# Altium schematic symbol library YLXC.SchLib: 6 symbols
Pins are listed as number, name and electrical type; pins without a type are passive.

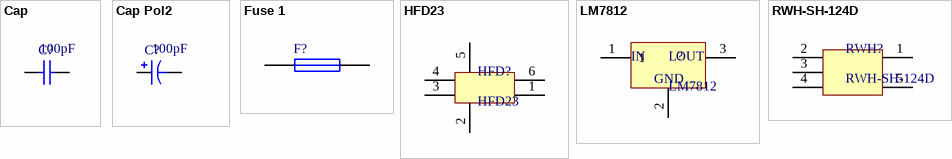
[diagram p0: symbols Cap to RWH-SH-124D]

## Cap
designator C?  value 100pF
Capacitor; Published: 8-Jun-2000; LatestRevisionDate: 17-Jul-2002; LatestRevisionNote: Re-released for DXP Platform.; PackageReference: RAD-0.3; Publisher: Altium Limited; PackageDescription: Radial Cap, Thru-Hole; 2 Leads; 0.3 in Pin Spacing
footprint Cap
pins: 1, 2

## Cap Pol2
designator C?  value 100pF
Polarized Capacitor (Axial); Published: 8-Jun-2000; LatestRevisionDate: 17-Jul-2002; LatestRevisionNote: Re-released for DXP Platform.; PackageReference: POLAR0.8; Publisher: Altium Limited; PackageDescription: Polarized Capacitor; 2 Leads
footprint Cap Pol2
pins: 1, 2
1 alternate drawing of the same symbol

## Fuse 1
designator F?
Fuse; Published: 8-Jun-2000; LatestRevisionDate: 17-Jul-2002; LatestRevisionNote: Re-released for DXP Platform.; PackageReference: PIN-W2/E2.8; Publisher: Altium Limited; PackageDescription: Thru-Hole; 2 Leads
footprint Fuse 1
pins: 1, 2

## HFD23
designator HFD?
footprint RWH-SH-124D
footprint HFD23 012-12S
pins: 1, 2, 3, 4, 5, 6

## LM7812
designator L?
footprint LM7812
pins: 1, 2, 3
text: IN; OUT; GND

## RWH-SH-124D
designator RWH?
footprint RWH-SH-124D
pins: 1, 2, 3, 4, 5